# Altium schematic symbol library CRCW20102K00JNEF.schlib: 1 symbol
Pins are listed as number, name and electrical type; pins without a type are passive.

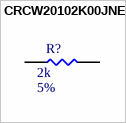
[diagram p0: symbol CRCW20102K00JNEF]

## CRCW20102K00JNEF
designator R?  Tolerance: 5%  Resistance: 2k  (hidden comment: CRCW20102K00JNEF)
Thick Film Resistors - SMD 3/4watt 2Kohms 5%; MFR: Vishay; Qualifications: Automotive Grade; Power Rating: 3/4W; ComponentLink1Description: Datasheet; ComponentLink1URL: https://www.mouser.ca/datasheet/2/427/dcrcwe3-1762152.pdf; Footprint: RES2010; PN: CRCW20102K00JNEF; Package: 2010; Supplier 1: Avnet; Supplier Part Number 1: CRCW20102K00JNEFHP
footprint RES2010 (Generic 2010 Footprint)
pins: 1, 2